# Altium schematic symbol library ADS1146-TSSOP16.SchLib: 1 symbol
Pins are listed as number, name and electrical type; pins without a type are passive.

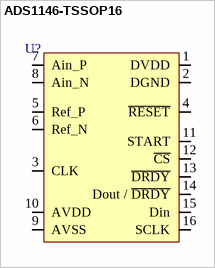
[diagram p0: symbol ADS1146-TSSOP16]

## ADS1146-TSSOP16
designator U?  (value not drawn)
pins: 1 DVDD, 2 DGND, 3 CLK, 4 ~{RESET}, 5 Ref_P, 6 Ref_N, 7 Ain_P, 8 Ain_N, 9 AVSS, 10 AVDD, 11 START, 12 ~{CS}, 13 ~{DRDY}, 14 Dout / ~{DRDY}, 15 Din, 16 SCLK